# EAGLE library part AD7276_6 (library analog_extras)
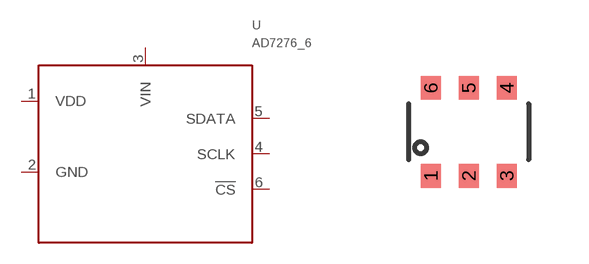
[diagram p5: symbol with the pads of TSOT_6; footprint TSOT_6]

Designator prefix -

## AD7276_6  [TSOT_6]
1  VDD  pwr
2  GND  pwr
3  VIN  in
4  SCLK  in
5  SDATA  out
6  !CS  in

## Footprint TSOT_6 (pad centres in mm)
smd 0.5 x 0.6: 1 -0.95,-0.3; 2 0,-0.3; 3 0.95,-0.3; 4 0.95,1.9; 5 0,1.9; 6 -0.95,1.9